# EAGLE library part TTP229 (library ttp229)
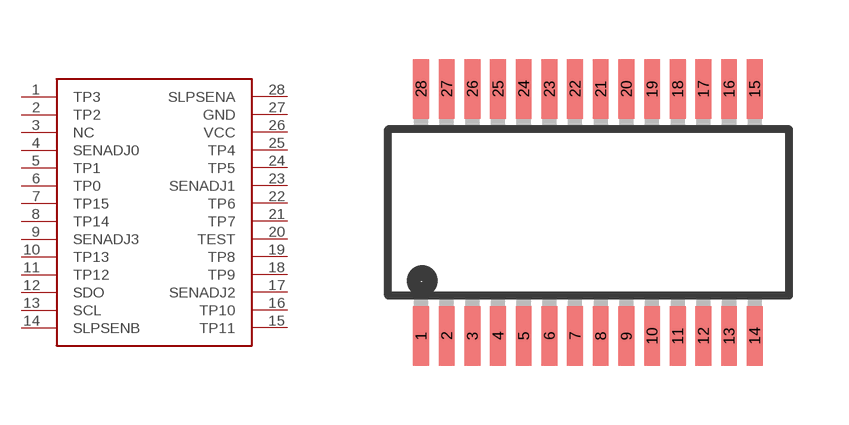
[diagram p0: symbol with the pads of TTP229-SSOP28; footprint TTP229-SSOP28]

Designator prefix -

## TTP229  [TTP229-SSOP28]
1  TP3  in
2  TP2  nc
3  NC  sup
4  SENADJ0  sup
5  TP1  sup
6  TP0  sup
7  TP15  sup
8  TP14
9  SENADJ3  out
10  TP13  in
11  TP12  in
12  SDO  out
13  SCL  in
14  SLPSENB  oc
15  TP11  sup
16  TP10  sup
17  SENADJ2  sup
18  TP9  sup
19  TP8  sup
20  TEST  sup
21  TP7  in
22  TP6  in
23  SENADJ1  out
24  TP5  out
25  TP4
26  VCC  pwr
27  GND  pwr
28  SLPSENA

## Footprint TTP229-SSOP28 (pad centres in mm)
smd 0.4 x 1.5: 1 -4.225,-3.125; 2 -3.575,-3.125; 3 -2.925,-3.125; 4 -2.275,-3.125; 5 -1.625,-3.125; 6 -0.975,-3.125; 7 -0.325,-3.125; 8 0.325,-3.125; 9 0.975,-3.125; 10 1.625,-3.125; 11 2.275,-3.125; 12 2.925,-3.125; 13 3.575,-3.125; 14 4.225,-3.125; 15 4.225,3.125; 16 3.575,3.125; 17 2.925,3.125; 18 2.275,3.125; 19 1.625,3.125; 20 0.975,3.125; 21 0.325,3.125; 22 -0.325,3.125; 23 -0.975,3.125; 24 -1.625,3.125; 25 -2.275,3.125; 26 -2.925,3.125; 27 -3.575,3.125; 28 -4.225,3.125